# EAGLE library part SERVO-9 (library connector)
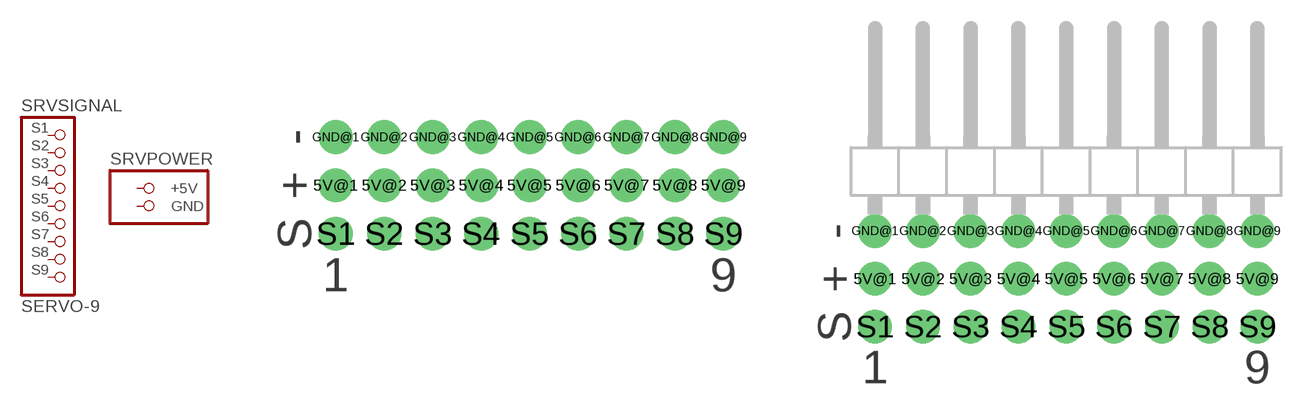
[diagram p5: symbol with the pads of SERVO-09; footprints SERVO-09, SERVO-09/90]

Designator prefix SRV; gates SIGNAL=HEADER-9POS POWER=PWR5V

## SERVO-9  [SERVO-09]
5V@1  POWER:+5V  pwr
5V@2  POWER:+5V  pwr
5V@3  POWER:+5V  pwr
5V@4  POWER:+5V  pwr
5V@5  POWER:+5V  pwr
5V@6  POWER:+5V  pwr
5V@7  POWER:+5V  pwr
5V@8  POWER:+5V  pwr
5V@9  POWER:+5V  pwr
GND@1  POWER:GND  pwr
GND@2  POWER:GND  pwr
GND@3  POWER:GND  pwr
GND@4  POWER:GND  pwr
GND@5  POWER:GND  pwr
GND@6  POWER:GND  pwr
GND@7  POWER:GND  pwr
GND@8  POWER:GND  pwr
GND@9  POWER:GND  pwr
S1  SIGNAL:P$1
S2  SIGNAL:P$2
S3  SIGNAL:P$3
S4  SIGNAL:P$4
S5  SIGNAL:P$5
S6  SIGNAL:P$6
S7  SIGNAL:P$7
S8  SIGNAL:P$8
S9  SIGNAL:P$9

## SERVO-9/90  [SERVO-09/90]
Pads as for SERVO-09

## Footprint SERVO-09 (pad centres in mm)
drill 1 pad 1.778: 5V@1 -10.16,0; 5V@2 -7.62,0; 5V@3 -5.08,0; 5V@4 -2.54,0; 5V@5 0,0; 5V@6 2.54,0; 5V@7 5.08,0; 5V@8 7.62,0; 5V@9 10.16,0; GND@1 -10.16,2.54; GND@2 -7.62,2.54; GND@3 -5.08,2.54; GND@4 -2.54,2.54; GND@5 0,2.54; GND@6 2.54,2.54; GND@7 5.08,2.54; GND@8 7.62,2.54; GND@9 10.16,2.54; S1 -10.16,-2.54; S2 -7.62,-2.54; S3 -5.08,-2.54; S4 -2.54,-2.54; S5 0,-2.54; S6 2.54,-2.54; S7 5.08,-2.54; S8 7.62,-2.54; S9 10.16,-2.54

## Footprint SERVO-09/90 (pad centres in mm)
drill 1 pad 1.778: 5V@1 -10.16,0; 5V@2 -7.62,0; 5V@3 -5.08,0; 5V@4 -2.54,0; 5V@5 0,0; 5V@6 2.54,0; 5V@7 5.08,0; 5V@8 7.62,0; 5V@9 10.16,0; GND@1 -10.16,2.54; GND@2 -7.62,2.54; GND@3 -5.08,2.54; GND@4 -2.54,2.54; GND@5 0,2.54; GND@6 2.54,2.54; GND@7 5.08,2.54; GND@8 7.62,2.54; GND@9 10.16,2.54; S1 -10.16,-2.54; S2 -7.62,-2.54; S3 -5.08,-2.54; S4 -2.54,-2.54; S5 0,-2.54; S6 2.54,-2.54; S7 5.08,-2.54; S8 7.62,-2.54; S9 10.16,-2.54